# Altium schematic symbol library whong.SchLib: 76 symbols
Pins are listed as number, name and electrical type; pins without a type are passive.

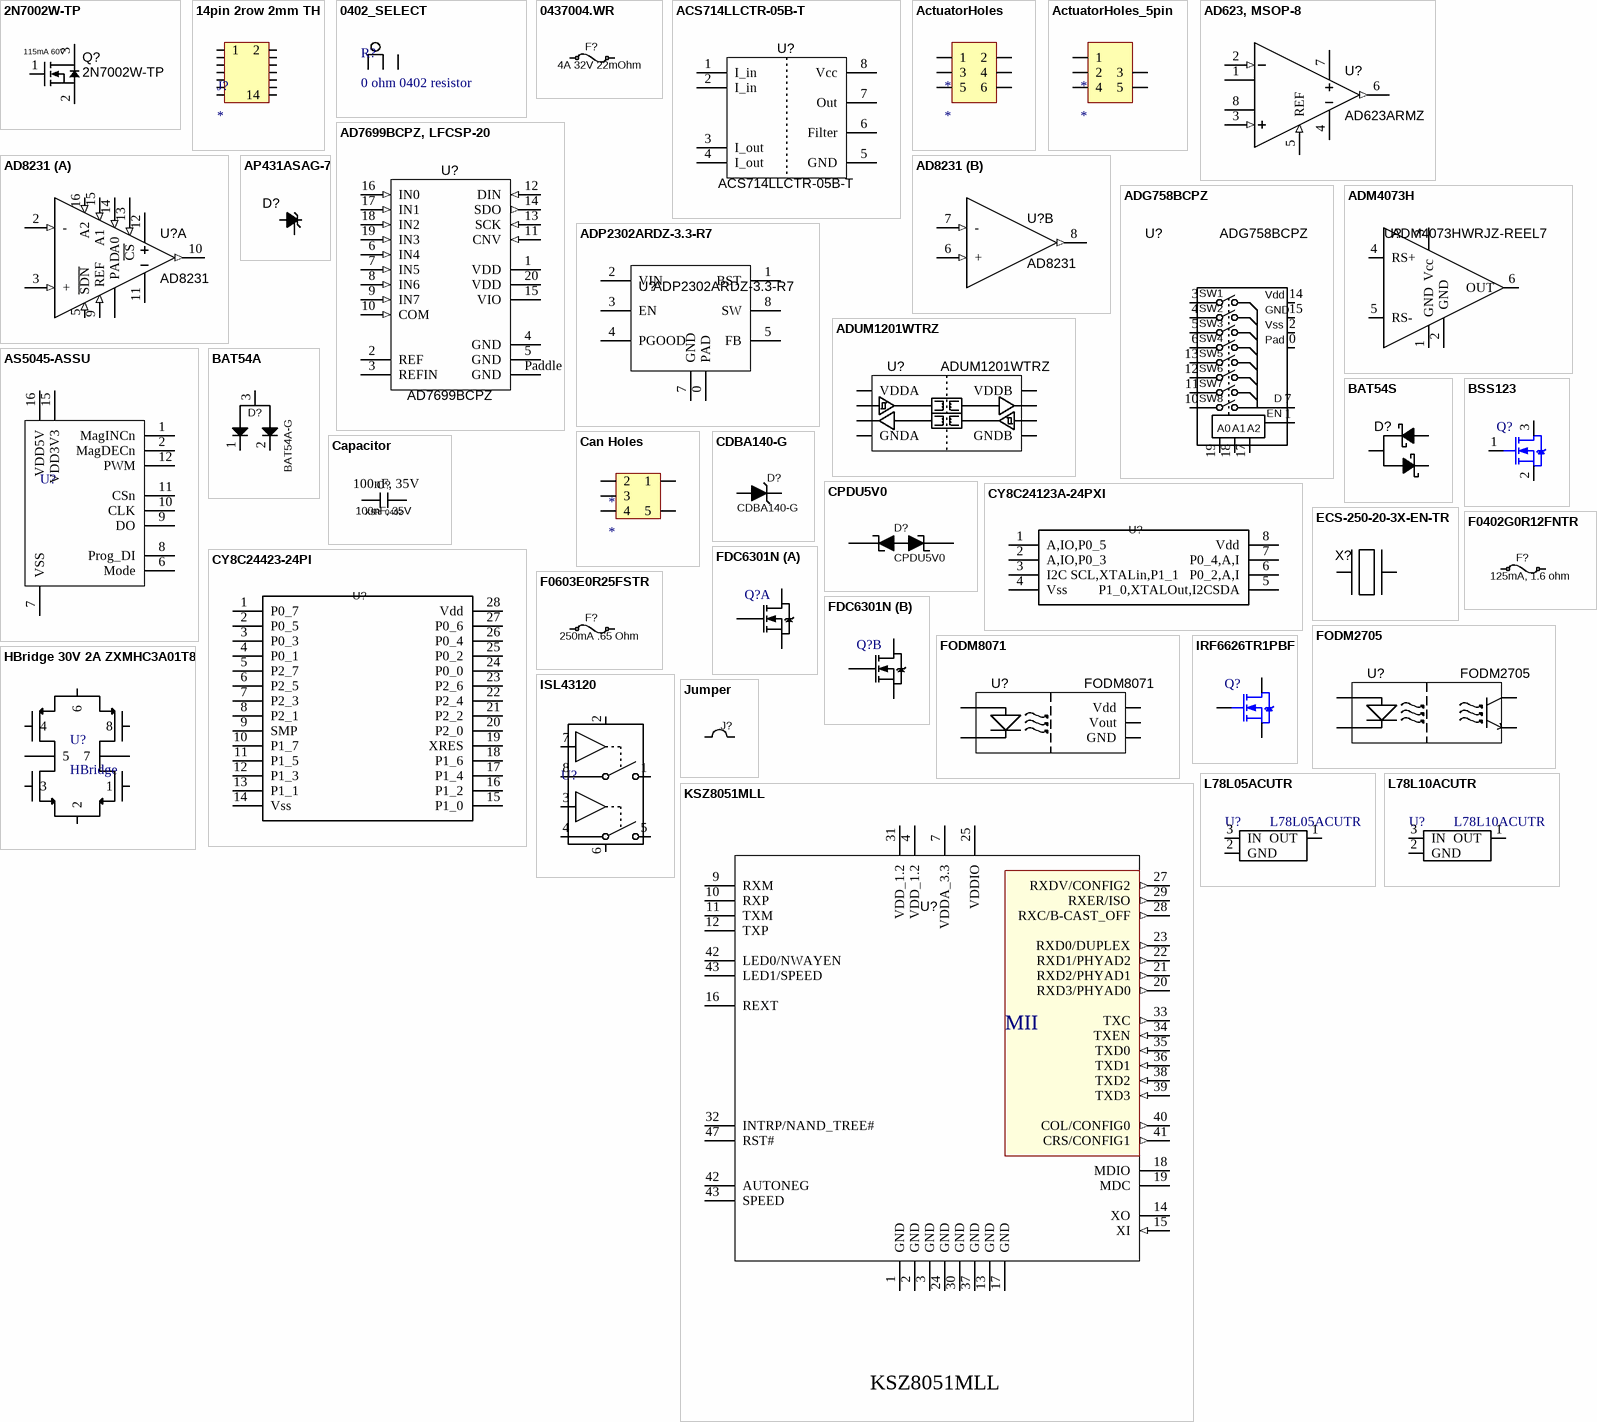
[diagram p0: symbols 2N7002W-TP to L78L10ACUTR]

## 2N7002W-TP
designator Q?  Rating: 115mA 60V
FET N-Channel 115mA 60V SOT23; Manufacturer: Micro Commercial Co; Vendor: Digi-Key; VendorPN: 2N7002W-TPMSCT-ND; ComponentLink1Description: Datasheet; ComponentLink1URL: http://61.222.192.61/mccsemi/up_pdf/2N7002W(SOT-323).pdf; ManufacturerPN: 2N7002W-TP
footprint SOT-23
pins: 1 G, 2 S, 3 D

## 14pin 2row 2mm TH
designator J?
14pin 2row 2mm pitch header
footprint Samtec 2mm 14pin 2row keyed header
pins: 1, 2, 3, 4, 5, 6, 7, 8, 9, 10, 11, 12, 13, 14

## 0402_SELECT
designator R?, comment 0 ohm 0402 resistor
Use this to select between two inputs by placing an 0402; VendorPN: RHM0.0JTR-ND; Vendor: Digikey
footprint 0402 - SELECTOR
pins: 1, 2, 3

## 0437004.WR
designator F?, comment 4A 32V 22mOhm
Fuse 4A 1206 32V 22mOhm; Manufacturer: Littelfuse Inc; ManufacturerPN: 0437004.WR; Vendor: Digi-Key; VendorPN: F2889DKR-ND; ComponentLink1Description: Datasheet; ComponentLink1URL: http://www.littelfuse.com/data/en/Data_Sheets/Littelfuse_Fuse_437.pdf; Power: *; Value: 4A 32V 22mOhm
footprint 0603
pins: 1, 2

## ACS714LLCTR-05B-T
designator U?
Current Sensor, Hall Effect -5A to +5A; Manufacturer: Allegro Microsystems Inc.; Vendor: Digi-Key; VendorPN: 620-1225-1-ND; ComponentLink1Description: Datasheet; ComponentLink1URL: http://www.allegromicro.com/en/Products/Part_Numbers/0714/0714.pdf; ManufacturerPN: ACS714LLCTR-05B-T
footprint SOIC-8
pins: 1 I_in, 2 I_in, 3 I_out, 4 I_out, 5 GND, 6 Filter, 7 Out, 8 Vcc

## ActuatorHoles
designator *
footprint Actuator_Con_Holes
pins: 1, 2, 3, 4, 5, 6

## ActuatorHoles_5pin
designator *
footprint Actuator_Con_Holes_5pin
pins: 1, 2, 3, 4, 5

## AD623, MSOP-8
designator U?, comment AD623ARMZ
In-Amp; Manufacturer: Analog Devices Inc; Vendor: Digi-Key; VendorPN: AD623ARMZ-ND; ComponentLink1Description: Datasheet; ComponentLink1URL: http://www.analog.com/static/imported-files/data_sheets/AD623.pdf; ManufacturerPN: AD623ARMZ
footprint MSOP-8
pins: 1 -RG, 2 -IN (in), 3 +IN (in), 4 -VS (power), 5 REF (in), 6 Out (out), 7 +VS (power), 8 +RG

## AD7699BCPZ, LFCSP-20
designator U?, comment AD7699BCPZ
ADC 500KS, 16bit, 8 Channel; Manufacturer: Analog Devices; Vendor: Digi-Key; VendorPN: AD7699BCPZ-ND; ComponentLink1Description: Datasheet; ComponentLink1URL: http://www.analog.com/static/imported-files/data_sheets/AD7699.pdf; ManufacturerPN: AD7699BCPZ
footprint LFCSP-20 (20 lead LFCSP-20 (very similar to QFN-20))
pins: 1 VDD (power), 2 REF, 3 REFIN, 4 GND (power), 5 GND (power), 6 IN4 (in), 7 IN5 (in), 8 IN6 (in), 9 IN7 (in), 10 COM (in), 11 CNV (in), 12 DIN (in), 13 SCK (in), 14 SDO (out), 15 VIO (power), 16 IN0 (in), 17 IN1 (in), 18 IN2 (in), 19 IN3 (in), 20 VDD (power), Paddle GND (power)

## AD8231
designator U?
Instrumentation amp, programmable gain; Manufacturer: Analog Devices Inc; Vendor: Digi-Key; ComponentLink1Description: Datasheet; ComponentLink1URL: http://www.analog.com/static/imported-files/data_sheets/AD8231.pdf; ManufacturerPN: AD8231
footprint LFCSP-16 (16 lead LFCSP-16 (very similar to QFN-16))
part A pins: 2 - (in), 3 + (in), 5 ~{SDN} (in), 9 REF (in), 10 Out (out), 11 -VS (power), 12 +VS (power), 13 ~{CS} (in), 14 A0 (in), 15 A1 (in), 16 A2 (in), PADDLE PAD
part B pins: 6 + (in), 7 - (in), 8 Out (out)

## ADG758BCPZ
designator U?
Multiplexer, 8:1; Manufacturer: Analog Devices Inc.; Vendor: Digi-Key; VendorPN: ADG758BCPZ-ND; ComponentLink1Description: Datasheet; ComponentLink1URL: http://www.analog.com/static/imported-files/Data_Sheets/ADG758_759.pdf; ManufacturerPN: ADG758BCPZ; Supplier 1: Digi-Key
footprint VFQFN-20
pins: 0 Pad, 1 EN, 2 Vss, 3 S1, 4 S2, 5 S3, 6 S4, 7 D, 10 S8, 11 S7, 12 S6, 13 S5, 14 Vdd, 15 GND, 17 A2, 18 A1, 19 A0
text: SW1; SW2; SW3; SW4; SW5; SW6; SW7; SW8

## ADM4073H
designator U?, comment ADM4073HWRJZ-REEL7
Current sense amp, fixed gain 100; Manufacturer: Analog Devices Inc; Vendor: Digi-Key; VendorPN: ADM4073HWRJZ-REEL7TR-ND; ComponentLink1Description: Datasheet; ComponentLink1URL: http://www.analog.com/static/imported-files/Data_Sheets/ADM4073.pdf; ManufacturerPN: ADM4073HWRJZ-REEL7
footprint SOT-23-6 (SOT23, 5-Leads, Body 3.1x3.0mm (max), Pitch 0.95mm, IPC High Density)
pins: 1 GND, 2 GND, 3 Vcc, 4 RS+, 5 RS-, 6 OUT

## ADP2302ARDZ-3.3-R7
designator U?
BUCK 3.3V 2A 8SOIC; Manufacturer: Analog Devices Inc; Vendor: Digi-Key; VendorPN: ADP2302ARDZ-3.3-R7CT-ND; ComponentLink1Description: Datasheet; ComponentLink1URL: http://www.analog.com/static/imported-files/data_sheets/ADP2302_2303.pdf; ManufacturerPN: ADP2302ARDZ-3.3-R7
footprint SOIC8 W PAD
pins: 0 PAD, 1 BST, 2 VIN, 3 EN, 4 PGOOD, 5 FB, 7 GND, 8 SW

## ADUM1201WTRZ
designator U?
Isolator, Digital 2 channel, 3.3-5V; Manufacturer: Analog Devices Inc; Vendor: Digi-Key; VendorPN: ADUM1201WTRZ-ND; ComponentLink1Description: Datasheet; ComponentLink1URL: http://www.analog.com/static/imported-files/data_sheets/ADuM1200_1201.pdf; ManufacturerPN: ADUM1201WTRZ
footprint SOIC-8
pins: 1 VDDA, 2 VoutH, 3 VoutH, 4 GNDA, 5 GNDB, 6 VoutH, 7 VoutH, 8 VDDB

## AP431ASAG-7
designator D?, comment Adjustable  (value not drawn)
Regulator Shunt Adjustable .5% SOT23; Manufacturer: Diodes Inc; ManufacturerPN: AP431ASAG-7; Vendor: Digi-Key; VendorPN: AP431ASAGDICT-ND; ComponentLink1Description: Datasheet; ComponentLink1URL: http://www.diodes.com/datasheets/AP431_A.pdf; ZenerVoltage: Adjustable
signal-integrity model D Schottky
footprint SOT-23
pins: 1 K, 2 Ref, 3 A

## AS5045-ASSU
designator U?
IC ENCODER PROG 12-BIT 16-SSOP; Manufacturer: AMS; ManufacturerPN: AS5045-ASSU; Vendor: Digikey; VendorPN: AS5045-ASSU-ND; ComponentLink1URL: http://www.austriamicrosystems.com/eng/content/download/1288/7223; ComponentLink1Description: Datasheet
footprint SSOP-16
pins: 1 MagINCn, 2 MagDECn, 6 Mode, 7 VSS, 8 Prog_DI, 9 DO, 10 CLK, 11 CSn, 12 PWM, 15 VDD3V3, 16 VDD5V

## BAT54A
designator D?, comment BAT54A-G
Diode Pair, SOT23 Schottky Barrier Common Anode; Manufacturer: ComChip Technology; Value: BAT54A; Vendor: 641-1319-1-ND; VendorPN: Digikey; ManufacturerPN: BAT54A-G; ComponentLink1Description: Datasheet; ComponentLink1URL: http://comchipt.ipower.com/docs/BAT54.pdf
footprint SOT-23
pins: 1 K1, 2 K2, 3 CA

## BAT54S
designator D?  (value not drawn)
Diode Pair, Schottky, 30V, 0.2A, SOT23; Manufacturer: Fairchild Semiconductor; Vendor: Digi-Key; VendorPN: BAT54SFSCT-ND; ManufacturerPN: BAT54S; ComponentLink1Description: Datasheet; ComponentLink1URL: http://www.fairchildsemi.com/ds/BA/BAT54.pdf
signal-integrity model D Schottky
footprint SOT-23
pins: 1, 2, 3

## BSS123
designator Q?, comment NFET  (value not drawn)
FET N-CH 100V 170MA SOT-23; Manufacturer: Fairchild Semiconductor; ManufacturerPN: BSS123; Vendor: Digikey; VendorPN: BSS123NTR-ND; ComponentLink1URL: http://www.fairchildsemi.com/ds/BS/BSS123.pdf; ComponentLink1Description: Datasheet
footprint SOT-23
pins: 1 G, 2, 3

## Can Holes
designator *
footprint CAN_Holes
pins: 1, 2, 3, 4, 5

## Capacitor
designator C?, comment 100nF, 35V  Package: 0402  Dielectric: X5R
Capacitor; Manufacturer: Taiyo Yuden; Vendor: Digi-Key; ManufacturerPN: *; VendorPN: *; ComponentLink1Description: Datasheet; ComponentLink1URL: http://www.yuden.co.jp/ut/product/pdf/dlmk_e.pdf; Value: 100nF, 35V
simulation model CAP (Capacitor)
signal-integrity model Cap
footprint 0603
footprint 0402
footprint 0805
footprint Capacitor TH 0.2
pins: 1, 2

## CDBA140-G
designator D?
DIODE SCHOTTKY 40V 1A SMA; Manufacturer: Comchip Technology; Vendor: Digi-Key; VendorPN: 641-1015-1-ND; Package: SMA; ComponentLink1URL: http://61.219.227.171/cms/UserFiles/QW-BB003%20CDBA120-G~1100-G%20RevB800639.pdf; ComponentLink1Description: Datasheet; ManufacturerPN: CDBA140-G
simulation model SKYDIODE (Schottky Diode)
signal-integrity model Diode
pins: A, K

## CPDU5V0
designator D?
Diode, Bi-directional ESD Protection 5.1V breakdown; Manufacturer: Comchip Technology; Vendor: Digi-Key; VendorPN: 641-1088-2-ND; Package: 0603; ComponentLink1URL: http://www.comchip.com.tw/cms/UserFiles/QW-A7001-CPDU-Series-RevD534267.pdf; ComponentLink1Description: Datasheet; ManufacturerPN: CPDU5V0
simulation model SKYDIODE (Schottky Diode)
signal-integrity model Diode
footprint 0603
pins: A, K

## CY8C24123A-24PXI
designator U?
IC MCU 4K FLASH 256B SRAM 8-DIP; Manufacturer: Cypress Semiconductor Corp; ManufacturerPN: CY8C24123A-24PXI; Vendor: Digi-Key; VendorPN: 428-1602-ND; ComponentLink1Description: Datasheet; ComponentLink1URL: http://www.cypress.com/?docID=31677
footprint dip8
pins: 1 A,IO,P0_5, 2 A,IO,P0_3, 3 I2C SCL,XTALin,P1_1, 4 Vss, 5 P1_0,XTALOut,I2CSDA, 6 P0_2,A,I, 7 P0_4,A,I, 8 Vdd

## CY8C24423-24PI
designator U?
IC MCU 4K FLASH 256B 28-DIP; Manufacturer: Cypress Semiconductor Corp; ManufacturerPN: CY8C24423-24PI; Vendor: Digi-Key; VendorPN: 428-1556-5-ND; ComponentLink1Description: Datasheet; ComponentLink1URL: http://media.digikey.com/pdf/Data%20Sheets/Cypress%20PDFs/CY8C24123,223,423.pdf
pins: 1 P0_7, 2 P0_5, 3 P0_3, 4 P0_1, 5 P2_7, 6 P2_5, 7 P2_3, 8 P2_1, 9 SMP, 10 P1_7, 11 P1_5, 12 P1_3, 13 P1_1, 14 Vss, 15 P1_0, 16 P1_2, 17 P1_4, 18 P1_6, 19 XRES, 20 P2_0, 21 P2_2, 22 P2_4, 23 P2_6, 24 P0_0, 25 P0_2, 26 P0_4, 27 P0_6, 28 Vdd

## ECS-250-20-3X-EN-TR
designator X?
CRYSTAL 25.00000 MHZ 20PF SMD; Manufacturer: ECS Inc; ManufacturerPN: ECS-250-20-3X-EN-TR; Vendor: Digi-Key; VendorPN: XC1798CT-ND; ComponentLink1Description: Datasheet; ComponentLink1URL: http://www.ecsxtal.com/store/pdf/CSM-3X.pdf
footprint CSM-3X
pins: 1 K, 2 A

## F0402G0R12FNTR
designator F?, comment 125mA, 1.6 ohm
Fuse 125mA 0402 32V 1.6 Ohm; Manufacturer: AVX Corporation; ManufacturerPN: F0402G0R12FNTR; Vendor: Digi-Key; VendorPN: 478-6167-1-ND; ComponentLink1Description: Datasheet; ComponentLink1URL: http://media.digikey.com/pdf/Data%20Sheets/AVX%20PDFs/F0402G0R12FNTR_Spec%20.pdf; Power: *; Value: 125mA, 1.6 ohm
footprint 0402
pins: 1, 2

## F0603E0R25FSTR
designator F?, comment 250mA .65 Ohm
Fuse 250mA 0603 32V .65 Ohm; Manufacturer: AVX Corporation; ManufacturerPN: F0603E0R25FSTR; Vendor: Digi-Key; VendorPN: 478-2858-1-ND; ComponentLink1Description: Datasheet; ComponentLink1URL: http://www.avx.com/docs/Catalogs/accug2.pdf; Power: *; Value: 250mA .65 Ohm
footprint 0603
pins: 1, 2

## FDC6301N
designator Q?, comment NFET  (value not drawn)
FET N-type 25V .22A; Manufacturer: NXP Semiconductors; ManufacturerPN: PMGD370XN,115; VendorPN: 568-2367-1-ND; Vendor: Digi-Key; ComponentLink1URL: http://www.nxp.com/documents/data_sheet/PMGD370XN.pdf; ComponentLink1Description: Datasheet; Supplier 1: Digi-Key; Supplier Part Number 1: 568-2367-2-ND
part A pins: 2 S, 3 G, 4 D
part B pins: 2 S, 3 G, 4 D

## FODM2705
designator U?
Optocoupler, 3.3-5V transistor out; Manufacturer: Fairchild Optoelectronics Group; Vendor: Digi-Key; VendorPN: FODM2705-ND; ComponentLink1Description: Datasheet; ComponentLink1URL: http://www.fairchildsemi.com/ds/FO/FODM121.pdf; ManufacturerPN: FODM2705
footprint MFP-4 (MFP, 4 leads)
pins: 1 Anode, 3 Cathode, 4 Emitter, 6 Collector

## FODM8071
designator U?
Optocoupler, 3.3-5V logic out; Manufacturer: Fairchild Optoelectronics Group; Vendor: Digi-Key; VendorPN: FODM8071-ND; ComponentLink1Description: Datasheet; ComponentLink1URL: http://www.fairchildsemi.com/ds/FO%2FFODM8071.pdf; ManufacturerPN: FODM8071
footprint MFP-5 (MFP, 5 leads)
pins: 1 Anode, 3 Cathode, 4 GND, 5 Vout, 6 Vdd

## HBridge 30V 2A ZXMHC3A01T8
designator U?, comment HBridge
HBridge 30V 2A
pins: 1, 2, 3, 4, 5, 6, 7, 8

## IRF6626TR1PBF
designator Q?, comment NFET  (value not drawn)
FET N-type 30V 16A; Manufacturer: International Rectifier; ManufacturerPN: IRF6626TR1PBF; Vendor: Digikey; VendorPN: IRF6626TR1PBFCT-ND; ComponentLink1URL: http://www.irf.com/product-info/datasheets/data/irf6626pbf.pdf; ComponentLink1Description: Datasheet
footprint DirectFET ST (DirectFET Small Can)
pins: D, G, S

## ISL43120
designator U?
Switch, Dual SPST; Manufacturer: Intersil; ManufacturerPN: ISL43120IHZ-T; Vendor: Digikey; VendorPN: ISL43120IHZ-CT-ND; ComponentLink1URL: http://www.intersil.com/data/fn/fn6033.pdf; ComponentLink1Description: Datasheet
footprint SOT-23-8 (SOT23, 8-Leads)
pins: 1 NO1, 2 V+, 3 IN2, 4 COM2, 5 NO2, 6 GND, 7 IN1, 8 COM1

## Jumper
designator J?
Jumper; Manufacturer: Vishay/Dale; ManufacturerPN: CRCW040210K0FKED; Vendor: Digi-Key; VendorPN: 541-10.0KLCT-ND; Value: 10.0K; Tolerance: 1%; ComponentLink1Description: Datasheet; ComponentLink1URL: http://www.vishay.com/doc?20035; Power: *; Package: 0402
footprint 0603 - JUMPER
pins: 1, 2

## KSZ8051MLL
designator U?  (value not drawn)
Ethernet PHY MII; Manufacturer: Micrel Inc; Vendor: Digikey; VendorPN: 576-3731-ND; ComponentLink1Description: Datasheet; ComponentLink1URL: http://www.micrel.com/_PDF/Ethernet/datasheets/ksz8051mll.pdf; ManufacturerPN: KSZ8051MLL
footprint LQFP-48 7x7mm 0.5mm pitch
pins: 1 GND, 2 GND, 3 GND, 4 VDD_1.2, 7 VDDA_3.3, 9 RXM, 10 RXP, 11 TXM, 12 TXP, 13 GND, 14 XO, 15 XI (in), 16 REXT, 17 GND, 18 MDIO, 19 MDC, 20 RXD3/PHYAD0 (out), 21 RXD2/PHYAD1 (out), 22 RXD1/PHYAD2 (out), 23 RXD0/DUPLEX (out), 24 GND, 25 VDDIO, 27 RXDV/CONFIG2 (out), 28 RXC/B-CAST_OFF (out), 29 RXER/ISO (out), 30 GND, 31 VDD_1.2, 32 INTRP/NAND_TREE#, 33 TXC (out), 34 TXEN (in), 35 TXD0 (in), 36 TXD1 (in), 37 GND, 38 TXD2 (in), 39 TXD3 (in), 40 COL/CONFIG0 (out), 41 CRS/CONFIG1 (out), 42 LED0/NWAYEN, 42 AUTONEG, 43 LED1/SPEED, 43 SPEED, 47 RST#
text: MII

## L78L05ACUTR
designator U?  ManufacturerPN: L78L05ACUTR
Regulator 5V 100mA out 30V in SOT-89; Manufacturer: STMicroelectronics; Vendor: Digikey; VendorPN: 497-1183-1-ND; ComponentLink1URL: http://www.st.com/internet/com/TECHNICAL_RESOURCES/TECHNICAL_LITERATURE/DATASHEET/CD00000446.pdf; ComponentLink1Description: Datasheet
footprint SOT-89
pins: 1 OUT, 2 GND, 3 IN

## L78L10ACUTR
designator U?  ManufacturerPN: L78L10ACUTR
Regulator 10V 100mA out 30V in SOT-89; Manufacturer: STMicroelectronics; Vendor: Digikey; VendorPN: 497-7275-1-ND; ComponentLink1URL: http://www.st.com/internet/com/TECHNICAL_RESOURCES/TECHNICAL_LITERATURE/DATASHEET/CD00000446.pdf; ComponentLink1Description: Datasheet
footprint SOT-89
pins: 1 OUT, 2 GND, 3 IN

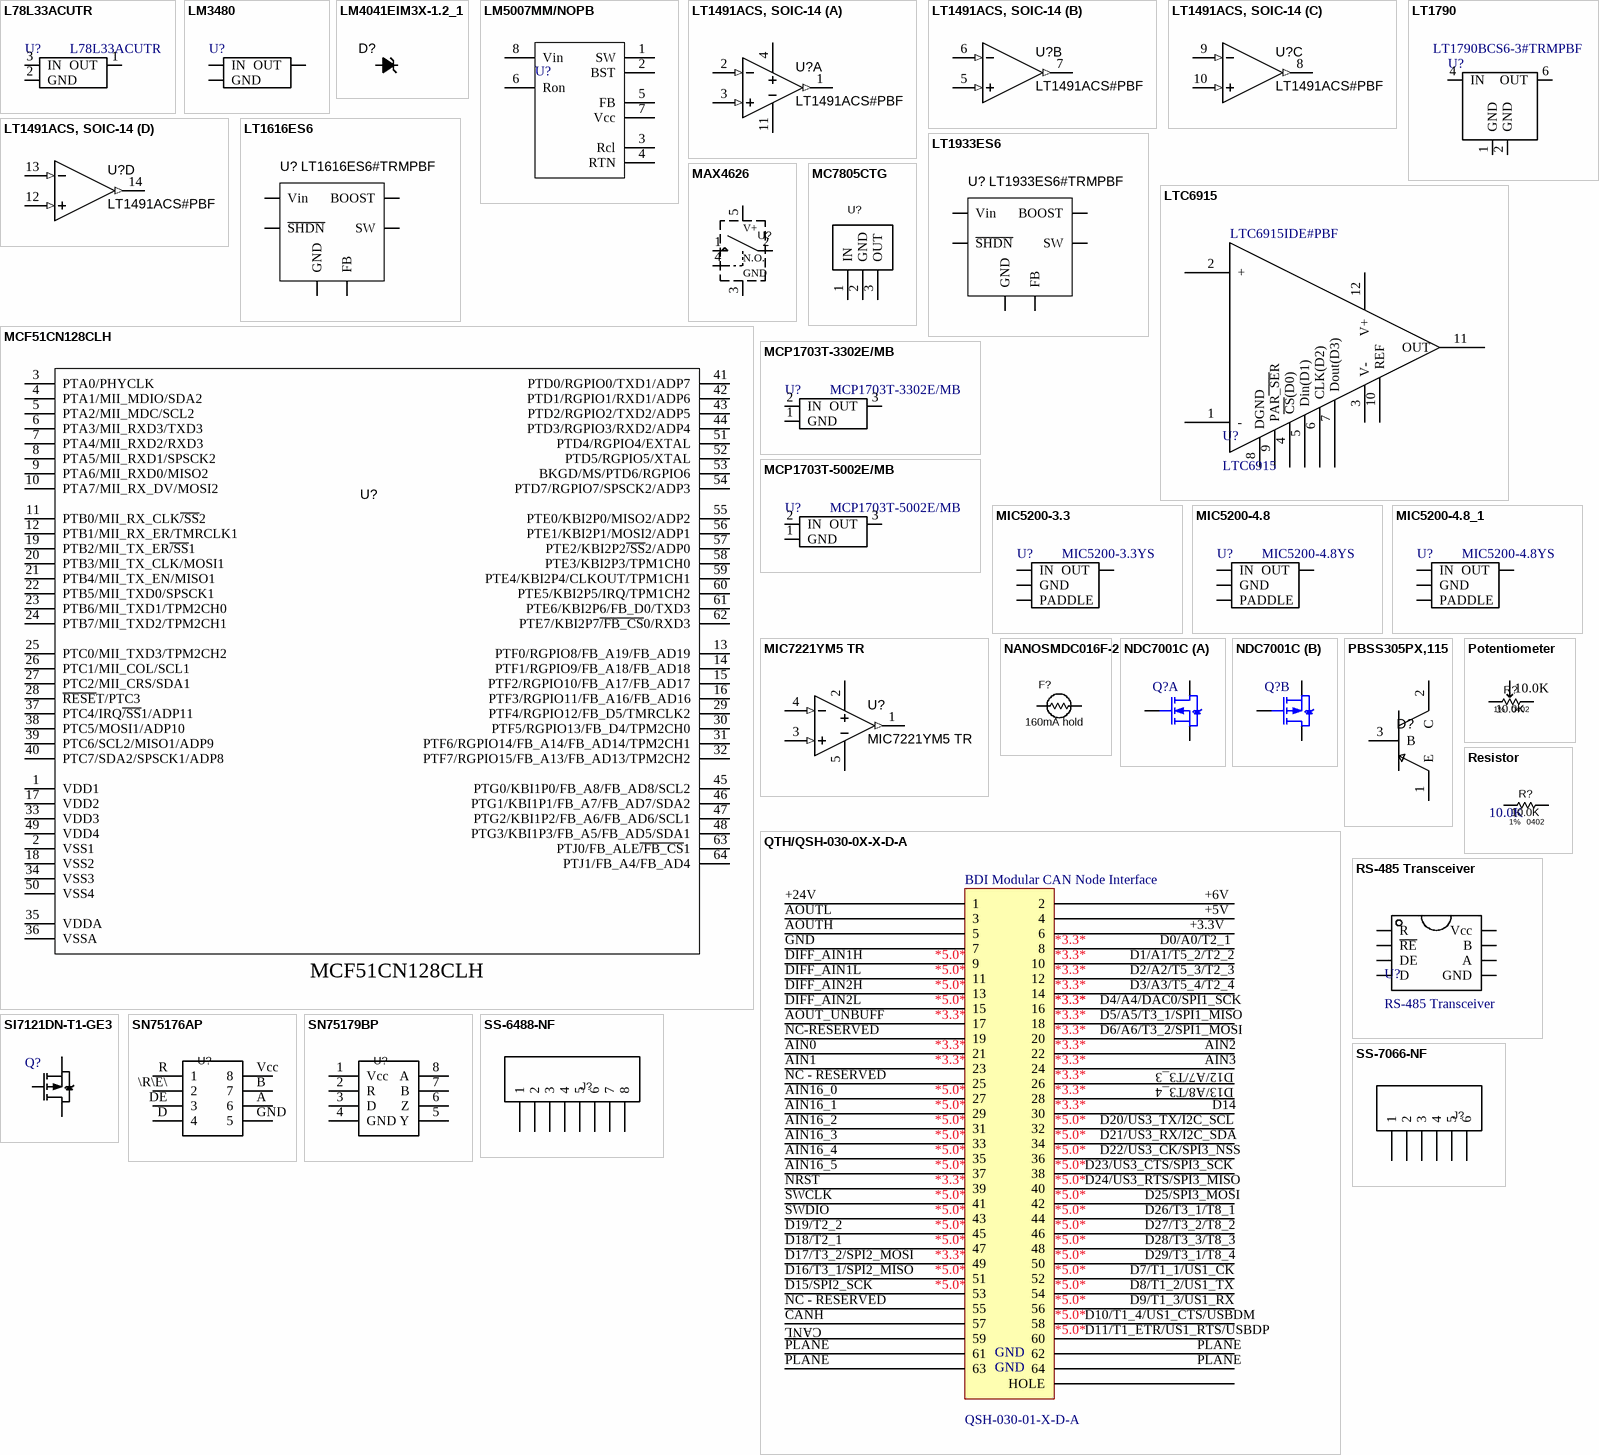
[diagram p1: symbols L78L33ACUTR to SS-7066-NF]

## L78L33ACUTR
designator U?  ManufacturerPN: L78L33ACUTR
Regulator 3.3V 100mA out 30V in SOT-89; Manufacturer: STMicroelectronics; Vendor: Digikey; VendorPN: 497-1200-1-ND; ComponentLink1URL: http://www.st.com/internet/com/TECHNICAL_RESOURCES/TECHNICAL_LITERATURE/DATASHEET/CD00000446.pdf; ComponentLink1Description: Datasheet
footprint SOT-89
pins: 1 OUT, 2 GND, 3 IN

## LM3480
designator U?
Regulator 3.3V 100mA out 30V; Manufacturer: National Semiconductor; ManufacturerPN: LM3480; Vendor: Digikey; VendorPN: LM3480IM3-3.3TR-ND; ComponentLink1URL: http://www.national.com/ds/LM/LM3480.pdf; ComponentLink1Description: Datasheet
footprint SOT-23
pins: 1 OUT, 2 IN, 3 GND

## LM4041EIM3X-1.2_1
designator D?
Reference 1.225 Bandgap Shunt; Manufacturer: National Semiconductor; ManufacturerPN: LM4041EIM3X-1.2; Vendor: Digi-Key; VendorPN: LM4041EIM3X-1.2CT-ND; ComponentLink1Description: Datasheet; ComponentLink1URL: http://www.national.com/ds/LM/LM4041.pdf
footprint SOT-23
pins: 1 K, 2 A

## LM5007MM/NOPB
designator U?
BUCK ADJ .5A 8MSOP; Manufacturer: National Semiconductor; ManufacturerPN: LM5007MM/NOPB; Vendor: Digikey; VendorPN: LM5007MMCT-ND; ComponentLink1URL: http://www.ti.com/lit/ds/symlink/lm5007.pdf; ComponentLink1Description: Datasheet
footprint MSOP-8
pins: 1 SW, 2 BST, 3 Rcl, 4 RTN, 5 FB, 6 Ron, 7 Vcc, 8 Vin

## LT1491ACS, SOIC-14
designator U?, comment LT1491ACS#PBF
Op-Amp, HV, Over-the-Top; Manufacturer: Linear Technology; Vendor: Digi-Key; VendorPN: LT1491ACS#PBF-ND; ComponentLink1Description: Datasheet; ComponentLink1URL: http://www.linear.com/pc/downloadDocument.do?navId=H0,C1,C1154,C1009,C1099,P1916,D2669; ManufacturerPN: LT1491ACS#PBF
footprint SOIC-14 Narrow .15 Inch .05 pitch
part A pins: 1 Out A (out), 2 IN- A (in), 3 IN+ A (in), 4 V+ (power), 11 V- (power)
part B pins: 5 IN+ B (in), 6 IN- B (in), 7 Out B (out)
part C pins: 8 Out C (out), 9 IN- C (in), 10 IN+ C (in)
part D pins: 12 IN+ D (in), 13 IN- D (in), 14 Out D (out)

## LT1616ES6
designator U?, comment LT1616ES6#TRMPBF
Buck Converter, Single Output; Manufacturer: Linear Technology; Vendor: Digi-Key; VendorPN: LT1616ES6#TRMPBFTR-ND; ComponentLink1Description: Datasheet; ComponentLink1URL: http://www.linear.com/pc/downloadDocument.do?navId=H0,C1,C1003,C1042,C1032,C1064,P1791,D1473; ManufacturerPN: LT1616ES6#TRMPBF
footprint SOT-23-6 (SOT23, 5-Leads, Body 3.1x3.0mm (max), Pitch 0.95mm, IPC High Density)
pins: 1 BOOST, 2 GND, 3 FB, 4 ~{SHDN}, 5 Vin, 6 SW

## LT1790
designator U?  ManufacturerPN: LT1790BCS6-3#TRMPBF
Reference 3V 0.1%; Manufacturer: Linear; Vendor: Digikey; VendorPN: LT1790BCS6-3#TRMPBFCT-ND; ComponentLink1URL: http://cds.linear.com/docs/Datasheet/1790fb.pdf; ComponentLink1Description: Datasheet
footprint SOT-23-6 (SOT23, 5-Leads, Body 3.1x3.0mm (max), Pitch 0.95mm, IPC High Density)
pins: 1 GND, 2 GND, 4 IN, 6 OUT

## LT1933ES6
designator U?, comment LT1933ES6#TRMPBF
Buck Converter, Single Output; Manufacturer: Linear Technology; Vendor: Digi-Key; VendorPN: LT1933ES6#TRMPBFCT-ND; ComponentLink1Description: Datasheet; ComponentLink1URL: http://www.linear.com/pc/downloadDocument.do?navId=H0,C1,C1003,C1042,C1032,C1064,P7531,D5095; ManufacturerPN: LT1933ES6#TRMPBF
footprint SOT-23-6 (SOT23, 5-Leads, Body 3.1x3.0mm (max), Pitch 0.95mm, IPC High Density)
pins: 1 BOOST, 2 GND, 3 FB, 4 ~{SHDN}, 5 Vin, 6 SW

## LTC6915
designator U?  ManufacturerPN: LTC6915IDE#PBF
Instrumentation Amp. Programmable; Manufacturer: Linear Technology; Vendor: Digi-Key; VendorPN: LTC6915IDE#PBF-ND; ComponentLink1Description: Datasheet; ComponentLink1URL: http://www.linear.com/pc/downloadDocument.do?navId=H0,C1,C1154,C1009,C1121,P2446,D4005
footprint DFN12 4x3mm .5mm pitch (12 lead DFN (Dual Flat pack No leads))
pins: 1 -, 2 +, 3 V-, 4 ~{CS}(D0), 5 Din(D1), 6 CLK(D2), 7 Dout(D3), 8 DGND, 9 PAR~{_SE}R, 10 REF, 11 OUT, 12 V+

## MAX4626
designator U?
Switch SPST; Manufacturer: MAXIM; ManufacturerPN: MAX4626EUK+T; Vendor: Digi-Key; VendorPN: MAX4626EUK+TDKR-ND; ComponentLink1Description: Datasheet; ComponentLink1URL: http://datasheets.maxim-ic.com/en/ds/MAX4626-MAX4628.pdf
footprint SOT-23-5 (SOT23, 5-Leads, Body 3.1x3.0mm (max), Pitch 0.95mm, IPC High Density)
pins: 1 COM, 2 NO, 3 GND, 4 IN, 5 V+
text: N.O.

## MC7805CTG
designator U?
IC REG VOLT POS 1A 5V TO220AB; Manufacturer: ON Semiconductor; ManufacturerPN: MC7805CTG; Vendor: Digi-Key; VendorPN: MC7805CTGOS-ND; ComponentLink1Description: Datasheet; ComponentLink1URL: http://www.onsemi.com/pub_link/Collateral/MC7800-D.PDF
footprint TO-220
pins: 1 IN, 2 GND, 3 OUT

## MCF51CN128CLH
designator U?  (value not drawn)
MCU Coldfire w/ Ethernet; Manufacturer: Freescale Semiconductor; Vendor: Digikey; VendorPN: MCF51CN128CLH-ND; ComponentLink1Description: Datasheet; ComponentLink1URL: http://www.freescale.com/files/32bit/doc/data_sheet/MCF51CN128.pdf?pspll=1; ManufacturerPN: MCF51CN128CLH
footprint LQFP-64 10x10mm .5mm pitch
pins: 1 VDD1, 2 VSS1, 3 PTA0/PHYCLK, 4 PTA1/MII_MDIO/SDA2, 5 PTA2/MII_MDC/SCL2, 6 PTA3/MII_RXD3/TXD3, 7 PTA4/MII_RXD2/RXD3, 8 PTA5/MII_RXD1/SPSCK2, 9 PTA6/MII_RXD0/MISO2, 10 PTA7/MII_RX_DV/MOSI2, 11 PTB0/MII_RX_CLK~{/SS}2, 12 PTB1/MII_RX_ER/TMRCLK1, 13 PTF0/RGPIO8/FB_A19/FB_AD19, 14 PTF1/RGPIO9/FB_A18/FB_AD18, 15 PTF2/RGPIO10/FB_A17/FB_AD17, 16 PTF3/RGPIO11/FB_A16/FB_AD16, 17 VDD2, 18 VSS2, 19 PTB2/MII_TX_ER~{/SS}1, 20 PTB3/MII_TX_CLK/MOSI1, 21 PTB4/MII_TX_EN/MISO1, 22 PTB5/MII_TXD0/SPSCK1, 23 PTB6/MII_TXD1/TPM2CH0, 24 PTB7/MII_TXD2/TPM2CH1, 25 PTC0/MII_TXD3/TPM2CH2, 26 PTC1/MII_COL/SCL1, 27 PTC2/MII_CRS/SDA1, 28 ~{RESE}T/PTC3, 29 PTF4/RGPIO12/FB_D5/TMRCLK2, 30 PTF5/RGPIO13/FB_D4/TPM2CH0, 31 PTF6/RGPIO14/FB_A14/FB_AD14/TPM2CH1, 32 PTF7/RGPIO15/FB_A13/FB_AD13/TPM2CH2, 33 VDD3, 34 VSS3, 35 VDDA, 36 VSSA, 37 PTC4/IRQ~{/SS}1/ADP11, 38 PTC5/MOSI1/ADP10, 39 PTC6/SCL2/MISO1/ADP9, 40 PTC7/SDA2/SPSCK1/ADP8, 41 PTD0/RGPIO0/TXD1/ADP7, 42 PTD1/RGPIO1/RXD1/ADP6, 43 PTD2/RGPIO2/TXD2/ADP5, 44 PTD3/RGPIO3/RXD2/ADP4, 45 PTG0/KBI1P0/FB_A8/FB_AD8/SCL2, 46 PTG1/KBI1P1/FB_A7/FB_AD7/SDA2, 47 PTG2/KBI1P2/FB_A6/FB_AD6/SCL1, 48 PTG3/KBI1P3/FB_A5/FB_AD5/SDA1, 49 VDD4, 50 VSS4, 51 PTD4/RGPIO4/EXTAL, 52 PTD5/RGPIO5/XTAL, 53 BKGD/MS/PTD6/RGPIO6, 54 PTD7/RGPIO7/SPSCK2/ADP3, 55 PTE0/KBI2P0/MISO2/ADP2, 56 PTE1/KBI2P1/MOSI2/ADP1, 57 PTE2/KBI2P2~{/SS}2/ADP0, 58 PTE3/KBI2P3/TPM1CH0, 59 PTE4/KBI2P4/CLKOUT/TPM1CH1, 60 PTE5/KBI2P5/IRQ/TPM1CH2, 61 PTE6/KBI2P6/FB_D0/TXD3, 62 PTE7/KBI2P7~{/FB_CS}0/RXD3, 63 PTJ0/FB_ALE~{/FB_CS}1, 64 PTJ1/FB_A4/FB_AD4

## MCP1703T-3302E/MB
designator U?  ManufacturerPN: MCP1703T-3302E/MB
Regulator 3.3V 250mA out 16V in SOT-89; Manufacturer: Microchip Technology; Vendor: Digikey; VendorPN: MCP1703T-3302E/MBCT-ND; ComponentLink1URL: http://ww1.microchip.com/downloads/en/DeviceDoc/22049f.pdf; ComponentLink1Description: Datasheet
footprint SOT-89
pins: 1 GND, 2 IN, 3 OUT

## MCP1703T-5002E/MB
designator U?  ManufacturerPN: MCP1703T-5002E/MB
Regulator 5V 250mA out 16V in SOT-89; Manufacturer: Microchip Technology; Vendor: Digikey; VendorPN: MCP1703T-5002E/MBCT-ND; ComponentLink1URL: http://ww1.microchip.com/downloads/en/DeviceDoc/22049f.pdf; ComponentLink1Description: Datasheet
footprint SOT-89
pins: 1 GND, 2 IN, 3 OUT

## MIC5200-3.3
designator U?  ManufacturerPN: MIC5200-3.3YS
Regulator 3.3V 100mA out 26V; Manufacturer: Micrel Inc; Vendor: Digikey; VendorPN: 576-1247-ND; ComponentLink1URL: http://www.micrel.com/_PDF/mic5200.pdf; ComponentLink1Description: Datasheet
footprint SOT-223
pins: 0 PADDLE, 1 IN, 2 GND, 3 OUT

## MIC5200-4.8
designator U?  ManufacturerPN: MIC5200-4.8YS
Regulator 4.8V 100mA out 26V; Manufacturer: Micrel Inc; Vendor: Digikey; VendorPN: 576-2360-ND; ComponentLink1URL: http://www.micrel.com/_PDF/mic5200.pdf; ComponentLink1Description: Datasheet
footprint SOT-223
pins: 0 PADDLE, 1 IN, 2 GND, 3 OUT

## MIC5200-4.8_1
designator U?  ManufacturerPN: MIC5200-4.8YS
Regulator 4.8V 100mA out 26V; Manufacturer: Micrel Inc; Vendor: Digikey; VendorPN: 576-2360-ND; ComponentLink1URL: http://www.micrel.com/_PDF/mic5200.pdf; ComponentLink1Description: Datasheet
footprint SOT-223
pins: 0 PADDLE, 1 IN, 2 GND, 3 OUT

## MIC7221YM5 TR
designator U?
IC COMPARATOR R-R SOT-23-5; Manufacturer: Micrel Inc; Vendor: Digi-key; VendorPN: 576-2901-2-ND; ComponentLink1Description: Datasheet; ComponentLink1URL: http://www.micrel.com/_PDF/mic7211.pdf; ManufacturerPN: MIC7221YM5 TR
footprint SOT-23-5 (SOT23, 5-Leads, Body 3.1x3.0mm (max), Pitch 0.95mm, IPC High Density)
pins: 1 Out A (out), 2 V+ (power), 3 IN+ A (in), 4 IN- A (in), 5 V- (power)

## NANOSMDC016F-2
designator F?, comment 160mA hold
Fuse, PTC Resettable, 160mA hold 450mA trip 1~5ohm 48V; Manufacturer: Tyco Electronics; ManufacturerPN: NANOSMDC016F-2; Vendor: Digi-Key; VendorPN: NANOSMDC016F-2CT-ND; ComponentLink1Description: Datasheet; ComponentLink1URL: http://media.digikey.com/pdf/Data%20Sheets/Tyco%20Electronics%20Raychem%20PDFs/NANOSMDC016F.pdf; Power: *; Value: 160mA hold
footprint 1206
pins: 1, 2

## NDC7001C
designator Q?
FET N and P pair 60V 300mA; Manufacturer: Fairchild; ManufacturerPN: NDC7001C; Vendor: Digikey; VendorPN: NDC7001CTR-ND; ComponentLink1URL: http://www.fairchildsemi.com/ds/ND/NDC7001C.pdf; ComponentLink1Description: Datasheet
footprint SuperSOT-6 (Super SOT 6)
part A pins: 1 G, 5 S, 6 D
part B pins: 2 S, 3 G, 4 D

## PBSS305PX,115
designator D?
TRANS PNP 80V 4A SOT89; Manufacturer: NXP Semiconductors; ManufacturerPN: PBSS305PX,115; Vendor: Digi-Key; VendorPN: 568-4178-1-ND; ComponentLink1Description: Datasheet; ComponentLink1URL: http://www.nxp.com/documents/data_sheet/PBSS305PX.pdf
footprint SOT-89 - PBSS305PX (SOT-89)
pins: 1 E, 2 C, 3 B

## Potentiometer
designator R?, comment 10.0K  Package: 0402  Tolerance: 1%
Potentiometer; Manufacturer: Vishay/Dale; ManufacturerPN: CRCW040210K0FKED; Vendor: Digi-Key; VendorPN: 541-10.0KLCT-ND; ComponentLink1Description: Datasheet; ComponentLink1URL: http://www.vishay.com/doc?20035; Power: *; Value: 10.0K
pins: 1, 2, 3

## QTH/QSH-030-0X-X-D-A
designator BDI Modular CAN Node Interface, comment MODEL: QSH-030-01-X-D-A  (hidden comment: BDI Modular CAN Node Interface)
BDI Modular CAN Node Interface - select polarity with footprint; Manufacturer: Samtec; LatestRevisionDate: 17-Jul-2002; LatestRevisionNote: Re-released for DXP Platform.; Publisher: Altium Limited
signal-integrity model Connector
footprint ModularNodeInterface-DaughterboardSide (QTH Board to board connector)
footprint ModularNodeInterface-ModuleSide (QSH Board to board connector)
pins: 1, 2, 3, 4, 5, 6, 7, 8, 9, 10, 11, 12, 13, 14, 15, 16, 17, 18, 19, 20, 21, 22, 23, 24, 25, 26, 27, 28, 29, 30, 31, 32, 33, 34, 35, 36, 37, 38, 39, 40, 41, 42, 43, 44, 45, 46, 47, 48, 49, 50, 51, 52, 53, 54, 55, 56, 57, 58, 59, 60, 61, 62, 63, 64, HOLE
text: +24V; +6V; AOUTL; +5V; AOUTH; +3.3V; GND; *3.3*; D0/A0/T2_1; DIFF_AIN1H; *5.0*; D1/A1/T5_2/T2_2; DIFF_AIN1L; D2/A2/T5_3/T2_3; DIFF_AIN2H; D3/A3/T5_4/T2_4; DIFF_AIN2L; D4/A4/DAC0/SPI1_SCK; AOUT_UNBUFF; D5/A5/T3_1/SPI1_MISO; NC-RESERVED; D6/A6/T3_2/SPI1_MOSI; AIN0; AIN2; AIN1; AIN3; D12/A7/T3_3; NC - RESERVED; D13/A8/T3_4; AIN16_0; AIN16_1; D14; AIN16_2; D20/US3_TX/I2C_SCL; AIN16_3; D21/US3_RX/I2C_SDA; AIN16_4; D22/US3_CK/SPI3_NSS; AIN16_5; D23/US3_CTS/SPI3_SCK; NRST; D24/US3_RTS/SPI3_MISO; SWCLK; D25/SPI3_MOSI; SWDIO; D26/T3_1/T8_1; D19/T2_2; D27/T3_2/T8_2; D18/T2_1; D28/T3_3/T8_3; D17/T3_2/SPI2_MOSI; D29/T3_1/T8_4; D16/T3_1/SPI2_MISO; D7/T1_1/US1_CK; D15/SPI2_SCK; D8/T1_2/US1_TX; D9/T1_3/US1_RX; CANH; CANL; D10/T1_4/US1_CTS/USBDM; D11/T1_ETR/US1_RTS/USBDP; PLANE

## Resistor
designator R?, comment 10.0K  Package: 0402  Tolerance: 1%
Resistor; Manufacturer: Vishay/Dale; ManufacturerPN: CRCW040210K0FKED; Vendor: Digi-Key; VendorPN: 541-10.0KLCT-ND; ComponentLink1Description: Datasheet; ComponentLink1URL: http://www.vishay.com/doc?20035; Power: *; Value: 10.0K
simulation model RESISTOR (Resistor)
signal-integrity model Res
footprint 0402
footprint 0603
footprint 0805
footprint 1206
footprint 1210
footprint Resistor Axial 0.3
pins: 1, 2

## RS-485 Transceiver
designator U?
footprint SOIC-8
pins: 1 R, 2 ~{RE}, 3 DE, 4 D, 5 GND, 6 A, 7 B, 8 Vcc

## SI7121DN-T1-GE3
designator Q?, comment PFET  (value not drawn)
FET P-type 30V 16A; Manufacturer: Vishay/Siliconix; ManufacturerPN: SI7121DN-T1-GE3; Vendor: Digikey; VendorPN: SI7121DN-T1-GE3CT-ND; ComponentLink1URL: http://www.vishay.com/docs/69956/si7121dn.pdf; ComponentLink1Description: Datasheet
footprint PowerPak 1212-8 Single
pins: D, G, S

## SN75176AP
designator U?
IC DIFF BUS TXCVR 8-DIP; Manufacturer: Texas Instruments; ManufacturerPN: SN75176AP; Vendor: Digi-Key; VendorPN: 296-1737-5-ND; ComponentLink1Description: Datasheet; ComponentLink1URL: http://www.ti.com/lit/ds/symlink/sn75176a.pdf
footprint dip8
pins: \R\E\ 2, A 6, B 7, D 4, DE 3, GND 5, R 1, Vcc 8

## SN75179BP
designator U?
IC DIFF DRIVER/RECPAIR 8-DIP; Manufacturer: Texas Instruments; ManufacturerPN: SN75179BP; Vendor: Digi-Key; VendorPN: 296-6861-5-ND; ComponentLink1Description: Datasheet; ComponentLink1URL: http://www.ti.com/lit/ds/symlink/sn75179b.pdf
footprint dip8
pins: 1 Vcc, 2 R, 3 D, 4 GND, 5 Y, 6 Z, 7 B, 8 A

## SS-6488-NF
designator J?
CONN 8-8 MOD JACK; Manufacturer: Stewart Connector; ManufacturerPN: SS-6488-NF; Vendor: Digi-Key; VendorPN: 380-1022-ND; ComponentLink1Description: Datasheet; ComponentLink1URL: http://www.belfuse.com/Data/Datasheets/CT640041.pdf
footprint SS-6488-NF (RJ45)
pins: 1, 2, 3, 4, 5, 6, 7, 8

## SS-7066-NF
designator J?
CONN 6-6 MOD JACK; Manufacturer: Stewart Connector; ManufacturerPN: SS-7066-NF; Vendor: Digi-Key; VendorPN: 380-1043-ND; ComponentLink1Description: Datasheet; ComponentLink1URL: http://www.belfuse.com/Data/Datasheets/CT700012.pdf
footprint RJ11 SS-7066-NF (SS-7066-NF RJ11 Connector)
pins: 1, 2, 3, 4, 5, 6

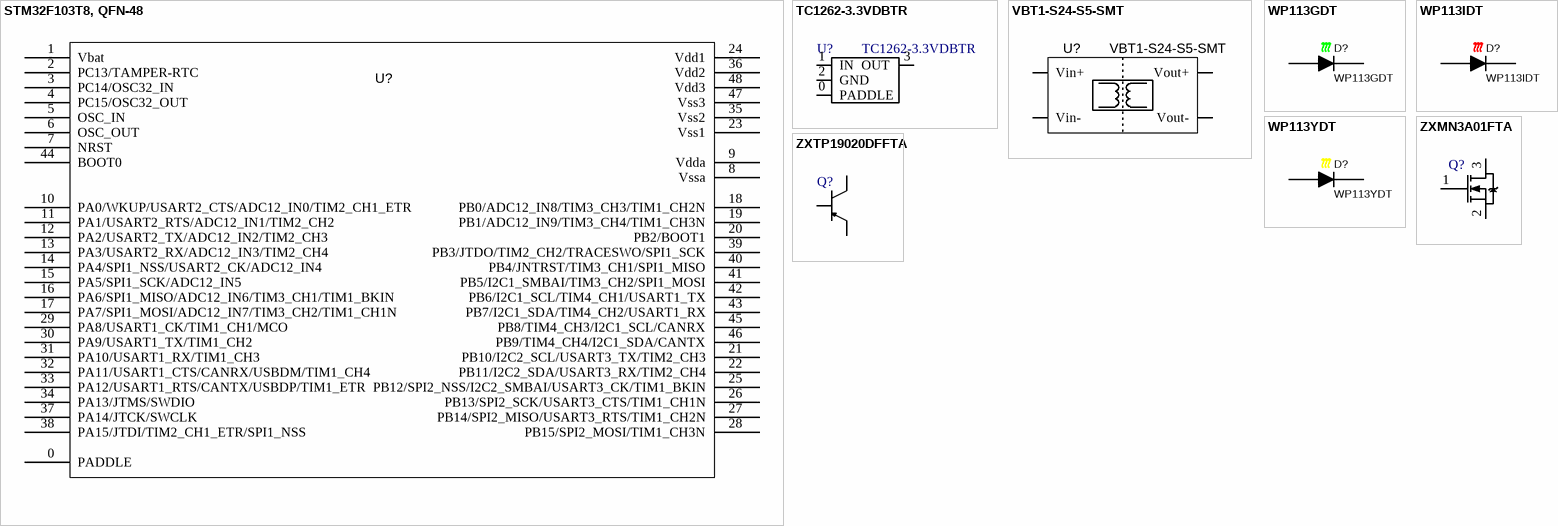
[diagram p2: symbols STM32F103T8, QFN-48 to ZXTP19020DFFTA]

## STM32F103T8, QFN-48
designator U?
ARM Cortex M3 MCU w/CAN; Manufacturer: ST Microelectronics; Vendor: Newark; ComponentLink1Description: Datasheet; ComponentLink1URL: http://www.st.com/stonline/products/literature/ds/13587/stm32f103t8.pdf
footprint VFQFPN48 7x7mm .5mm pitch
pins: 0 PADDLE, 1 Vbat, 2 PC13/TAMPER-RTC, 3 PC14/OSC32_IN, 4 PC15/OSC32_OUT, 5 OSC_IN, 6 OSC_OUT, 7 NRST, 8 Vssa, 9 Vdda, 10 PA0/WKUP/USART2_CTS/ADC12_IN0/TIM2_CH1_ETR, 11 PA1/USART2_RTS/ADC12_IN1/TIM2_CH2, 12 PA2/USART2_TX/ADC12_IN2/TIM2_CH3, 13 PA3/USART2_RX/ADC12_IN3/TIM2_CH4, 14 PA4/SPI1_NSS/USART2_CK/ADC12_IN4, 15 PA5/SPI1_SCK/ADC12_IN5, 16 PA6/SPI1_MISO/ADC12_IN6/TIM3_CH1/TIM1_BKIN, 17 PA7/SPI1_MOSI/ADC12_IN7/TIM3_CH2/TIM1_CH1N, 18 PB0/ADC12_IN8/TIM3_CH3/TIM1_CH2N, 19 PB1/ADC12_IN9/TIM3_CH4/TIM1_CH3N, 20 PB2/BOOT1, 21 PB10/I2C2_SCL/USART3_TX/TIM2_CH3, 22 PB11/I2C2_SDA/USART3_RX/TIM2_CH4, 23 Vss1, 24 Vdd1, 25 PB12/SPI2_NSS/I2C2_SMBAI/USART3_CK/TIM1_BKIN, 26 PB13/SPI2_SCK/USART3_CTS/TIM1_CH1N, 27 PB14/SPI2_MISO/USART3_RTS/TIM1_CH2N, 28 PB15/SPI2_MOSI/TIM1_CH3N, 29 PA8/USART1_CK/TIM1_CH1/MCO, 30 PA9/USART1_TX/TIM1_CH2, 31 PA10/USART1_RX/TIM1_CH3, 32 PA11/USART1_CTS/CANRX/USBDM/TIM1_CH4, 33 PA12/USART1_RTS/CANTX/USBDP/TIM1_ETR, 34 PA13/JTMS/SWDIO, 35 Vss2, 36 Vdd2, 37 PA14/JTCK/SWCLK, 38 PA15/JTDI/TIM2_CH1_ETR/SPI1_NSS, 39 PB3/JTDO/TIM2_CH2/TRACESWO/SPI1_SCK, 40 PB4/JNTRST/TIM3_CH1/SPI1_MISO, 41 PB5/I2C1_SMBAI/TIM3_CH2/SPI1_MOSI, 42 PB6/I2C1_SCL/TIM4_CH1/USART1_TX, 43 PB7/I2C1_SDA/TIM4_CH2/USART1_RX, 44 BOOT0, 45 PB8/TIM4_CH3/I2C1_SCL/CANRX, 46 PB9/TIM4_CH4/I2C1_SDA/CANTX, 47 Vss3, 48 Vdd3

## TC1262-3.3VDBTR
designator U?  ManufacturerPN: TC1262-3.3VDBTR
Regulator IC CMOS LDO 3.3V 500MA SOT223-3; Manufacturer: Microchip Technology; Vendor: Digikey; VendorPN: TC1262-3.3VDBCT-ND; ComponentLink1URL: http://ww1.microchip.com/downloads/en/DeviceDoc/21373b.pdf; ComponentLink1Description: Datasheet
footprint SOT-223
pins: 0 PADDLE, 1 IN, 2 GND, 3 OUT

## VBT1-S24-S5-SMT
designator U?
Isolated DC DC Converter, 24V in 5V 1W out; Manufacturer: CUI Inc; Vendor: Digi-Key; VendorPN: 102-1405-2-ND; ComponentLink1Description: Datasheet; ComponentLink1URL: http://products.cui.com/GetSpecForDigiKey.aspx?MFGNum=VBT1-S24-S5-SMT; ManufacturerPN: VBT1-S24-S5-SMT
footprint SMD-8 (SMD 8 pin)
pins: 1 Vin-, 2 Vin+, 4 Vout-, 5 Vout+

## WP113GDT
designator D?
LED RECT 2X5MM 568NM GRN DIFF; Manufacturer: Kingbright Corp; Vendor: Digi-Key; VendorPN: 754-1200-ND; ComponentLink1URL: http://www.us.kingbright.com/images/catalog/SPEC/WP113GDT.pdf; ComponentLink1Description: Datasheet; ManufacturerPN: WP113GDT
simulation model SKYDIODE (Schottky Diode)
signal-integrity model Diode
footprint LED 100mil (LED 100mil pitch)
pins: A, K

## WP113IDT
designator D?
LED RECT 2X5MM 625NM RED DIFF; Manufacturer: Kingbright Corp; Vendor: Digi-Key; VendorPN: 754-1201-ND; ComponentLink1URL: http://www.us.kingbright.com/images/catalog/SPEC/WP113GDT.pdf; ComponentLink1Description: Datasheet; ManufacturerPN: WP113IDT
simulation model SKYDIODE (Schottky Diode)
signal-integrity model Diode
footprint LED 100mil (LED 100mil pitch)
pins: A, K

## WP113YDT
designator D?
LED RECT 2X5MM 588NM YLW DIFF; Manufacturer: Kingbright Corp; Vendor: Digi-Key; VendorPN: 754-1203-ND; ComponentLink1URL: http://www.us.kingbright.com/images/catalog/SPEC/WP113YDT.pdf; ComponentLink1Description: Datasheet; ManufacturerPN: WP113YDT
simulation model SKYDIODE (Schottky Diode)
signal-integrity model Diode
footprint LED 100mil (LED 100mil pitch)
pins: A, K

## ZXMN3A01FTA
designator Q?, comment NFET  (value not drawn)
FET N-type 30V 1A; Manufacturer: Diodes/Zetex; ManufacturerPN: ZXMN3A01FTA; VendorPN: ZXMN3A01FTR-ND; Vendor: Digi-Key; ComponentLink1URL: http://www.diodes.com/datasheets/ZXMN3A01F.pdf; ComponentLink1Description: Datasheet
footprint SOT-23
pins: 1 G, 2 S, 3 D

## ZXTP19020DFFTA
designator Q?, comment BJT PNP  (value not drawn)
BJT PNP 5.5A 20V SOT23-3; Manufacturer: Diodes/Zetex; ManufacturerPN: ZXTP19020DFFTA; Vendor: Digikey; VendorPN: ZXTP19020DFFCT-ND; ComponentLink1URL: http://www.diodes.com/datasheets/ZXTP19020DFF.pdf; ComponentLink1Description: Datasheet
footprint SOT-23
pins: 1 B, 2 E, 3 C